# EAGLE library part H1164 (library pulse-eng)
10/100BASE-TX TRANSFORMER MODULE
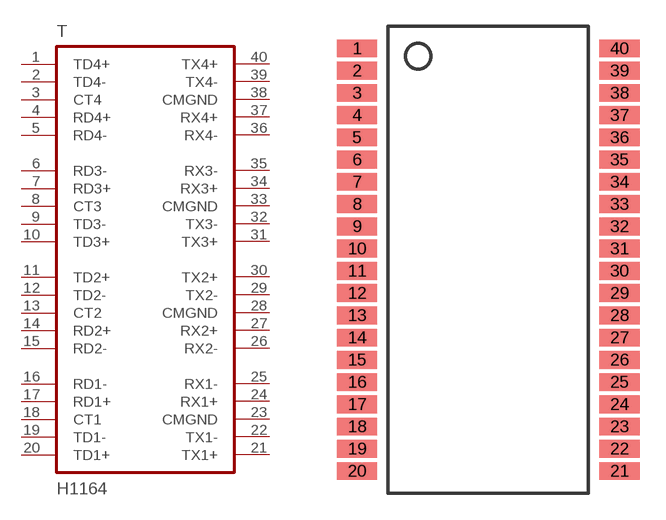
[diagram p3: symbol with the pads of H1164; footprint H1164]

Designator prefix T

## H1164  [H1164]
1  TD4+  pas
2  TD4-  pas
3  CT4  pas
4  RD4+  pas
5  RD4-  pas
6  RD3-  pas
7  RD3+  pas
8  CT3  pas
9  TD3-  pas
10  TD3+  pas
11  TD2+  pas
12  TD2-  pas
13  CT2  pas
14  RD2+  pas
15  RD2-  pas
16  RD1-  pas
17  RD1+  pas
18  CT1  pas
19  TD1-  pas
20  TD1+  pas
21  TX1+  pas
22  TX1-  pas
23  CMGND  pas
24  RX1+  pas
25  RX1-  pas
26  RX2-  pas
27  RX2+  pas
28  CMGND  pas
29  TX2-  pas
30  TX2+  pas
31  TX3+  pas
32  TX3-  pas
33  CMGND  pas
34  RX3+  pas
35  RX3-  pas
36  RX4-  pas
37  RX4+  pas
38  CMGND  pas
39  TX4-  pas
40  TX4+  pas

## Footprint H1164 (pad centres in mm)
10/100BASE-TX TRANSFORMER MODULE For Auto MDI/MDIX Applications
smd 2.286 x 1.016: 1 -7.493,12.065; 2 -7.493,10.795; 3 -7.493,9.525; 4 -7.493,8.255; 5 -7.493,6.985; 6 -7.493,5.715; 7 -7.493,4.445; 8 -7.493,3.175; 9 -7.493,1.905; 10 -7.493,0.635; 11 -7.493,-0.635; 12 -7.493,-1.905; 13 -7.493,-3.175; 14 -7.493,-4.445; 15 -7.493,-5.715; 16 -7.493,-6.985; 17 -7.493,-8.255; 18 -7.493,-9.525; 19 -7.493,-10.795; 20 -7.493,-12.065; 21 7.493,-12.065; 22 7.493,-10.795; 23 7.493,-9.525; 24 7.493,-8.255; 25 7.493,-6.985; 26 7.493,-5.715; 27 7.493,-4.445; 28 7.493,-3.175; 29 7.493,-1.905; 30 7.493,-0.635; 31 7.493,0.635; 32 7.493,1.905; 33 7.493,3.175; 34 7.493,4.445; 35 7.493,5.715; 36 7.493,6.985; 37 7.493,8.255; 38 7.493,9.525; 39 7.493,10.795; 40 7.493,12.065